# EAGLE library part 1.44-128X128 (library debauer_modules)
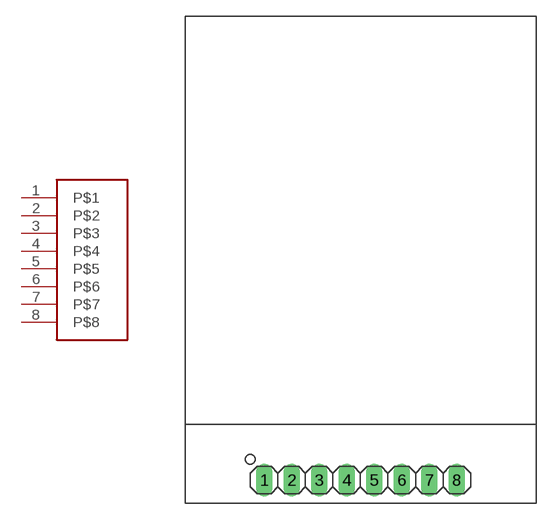
[diagram p26: symbol with the pads of 1.44-128X128; footprint 1.44-128X128]

Designator prefix -

## 1.44-128X128  [1.44-128X128]
1  P$1
2  P$2
3  P$3
4  P$4
5  P$5
6  P$6
7  P$7
8  P$8

## Footprint 1.44-128X128 (pad centres in mm)
drill 1.016 long: 1 7.27,2.14; 2 9.81,2.14; 3 12.35,2.14; 4 14.89,2.14; 5 17.43,2.14; 6 19.97,2.14; 7 22.51,2.14; 8 25.05,2.14